# Altium footprint library Devices.PcbLib: 2 footprints
Each footprint in its own frame and in the unit in brackets; x right, y up, seen from the top. Pads: shape width x height; smd on the part's side, far side on the other; paste and mask are expansions set on the pad; w line width, h text height; cw(c..) or ccw(c..) is an arc to the next point about the centre after c.
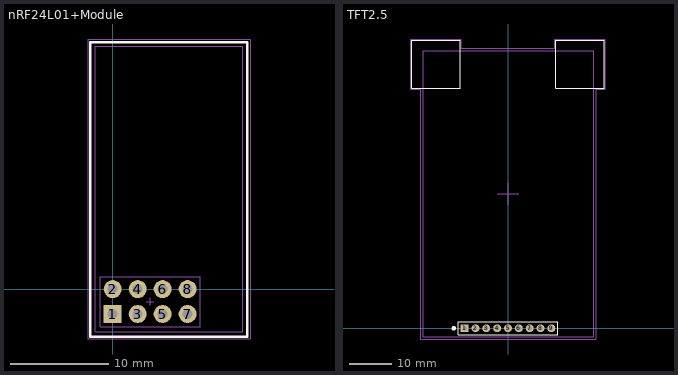
[diagram p0: the footprints below, top view; thin cyan lines are the x and y axes]

## nRF24L01+Module [mil]
pads (8):
  rect 72x72 hole 40: 1(0,-100)
  round 72 hole 40: 2(0,0) 3(100,-100) 4(100,0) 5(200,-100) 6(200,0) 7(300,-100) 8(300,0)
Top Overlay:
  lines w10: -90,-190 540,-190 540,990 -90,990 -90,-190
Top Courtyard (Mech4):
  lines w1: -100,-200 -100,1002.15 550.96,1002.15 550.96,-200 -100,-200
Top Assembly:
  lines w1: 135,-50 165,-50 ; 150,-65 150,-35 ; -70,-170 -70,972.15 520.96,972.15 520.96,-170 -70,-170 ; -50,-150 -50,50 350,50 350,-150 -50,-150
3D body "Wireless Radio Transmitter and Receiver nRF24L01.STEP": height 501.97, standoff -13.78, extent -69.8,-171.26 528.62,970.47

## TFT2.5 [mil]
pads (9):
  rect 72x72 hole 40: 1(-400,0)
  round 72 hole 40: 2(-300,0) 3(-200,0) 4(-100,0) 5(0,0) 6(100,0) 7(200,0) 8(300,0) 9(400,0)
Top Overlay:
  circle w20: c-500,0 r10
  lines w7.87: -460,-60 460,-60 460,60 -460,60 -460,-60
  lines w10: -887.4,2214.06 -887.4,2659.06 -442.4,2659.06 -442.4,2214.06 -887.4,2214.06 ; 442.4,2214.06 442.4,2659.06 887.4,2659.06 887.4,2214.06 442.4,2214.06
Top Courtyard (Mech4):
  lines w1: -897.4,2204.06 -897.4,2669.06 -432.4,2669.06 -432.4,2582.4 432.4,2582.4 432.4,2669.06 897.4,2669.06 897.4,2204.06 810,2204.06 810,-98.74 -810,-98.74 -810,2204.06 -897.4,2204.06
Top Assembly:
  lines w1: -100,1240.16 100,1240.16 ; 0,1140.16 0,1340.16 ; -787.4,-78.74 -787.4,2559.06 787.4,2559.06 787.4,-78.74 -787.4,-78.74
3D body "User Library-TFT22.STEP": height 673.73, standoff -156.98, extent -787.4,-78.74 787.4,2559.06